# Altium footprint library MEANWELL_IRM-10-5.PcbLib: 1 footprints
Each footprint in its own frame and in the unit in brackets; x right, y up, seen from the top. Pads: shape width x height; smd on the part's side, far side on the other; paste and mask are expansions set on the pad; w line width, h text height; cw(c..) or ccw(c..) is an arc to the next point about the centre after c.
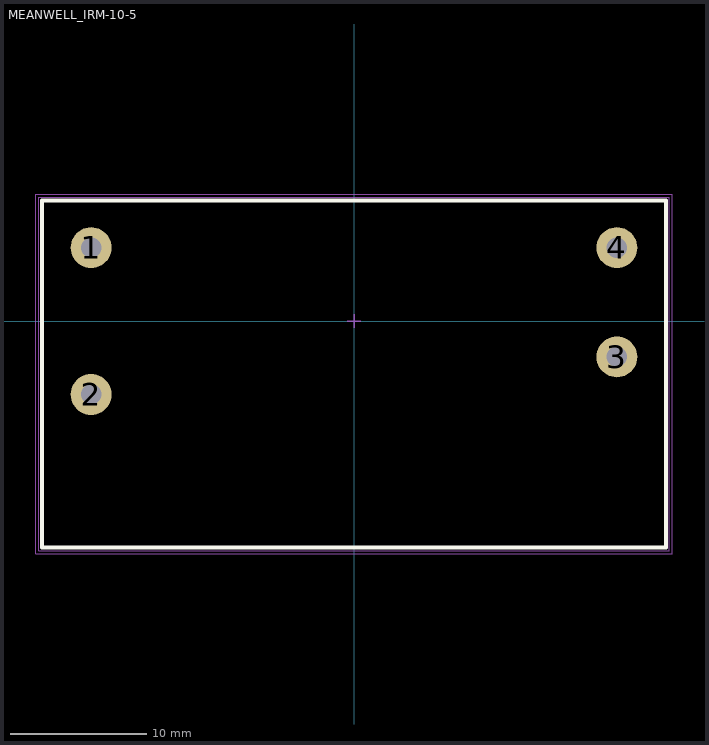
[diagram p0: the footprint, top view; thin cyan lines are the x and y axes]

## MEANWELL_IRM-10-5 [mm]
height 22
pads (4):
  round 3 hole 1.5: 1(-19.25,5.375) 2(-19.25,-5.375) 3(19.25,-2.625) 4(19.25,5.375)
Top Overlay:
  lines w0.3: -22.85,-16.575 22.85,-16.575 22.85,8.825 -22.85,8.825 -22.85,-16.575
Mechanical 13:
  lines w0.05: -23.1,-16.825 -23.1,9.075 23.1,9.075 23.1,-16.825 -23.1,-16.825
Mechanical 15:
  lines w0.05: -23.3,-17.025 23.3,-17.025 23.3,9.275 -23.3,9.275 -23.3,-17.025
  lines w0.1: -0.5,0 0.5,0 ; 0,-0.5 0,0.5
3D body: height 21.5, standoff 0, extent -23.1,-16.825 23.1,9.075